# Altium schematic symbol library PMIC - Voltage Regulators - DC DC Switching Regulators.SchLib: 2 symbols
Pins are listed as number, name and electrical type; pins without a type are passive.

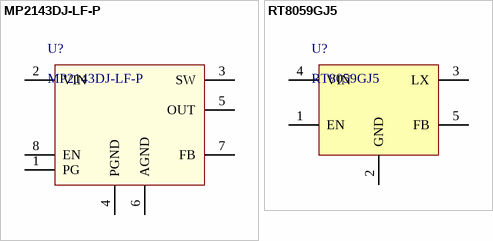
[diagram p0: symbols MP2143DJ-LF-P to RT8059GJ5]

## MP2143DJ-LF-P
designator U?
IC REG BUCK ADJ 3A SYNC; Manufacturer: Monolithic Power Systems Inc.; Function: Step-Down; Output Configuration: Positive; Output Type: Adjustable; Number of Outputs: 1; Voltage - Input (Min): 2.5V; Voltage - Input (Max): 5.5V; Voltage - Output (Min/Fixed): 0.6V; Voltage - Output (Max): 5V; Frequency - Switching: 1.2MHz; Synchronous Rectifier: Yes; Supplier 1: Digi-Key; Supplier Part Number 1: 1589-1080-1-ND; Manufacturer Part Number: MP2143DJ-LF-P; RoHS: RoHS Compliant; Category: Integrated Circuits (ICs); Stock 1: 415; Pricing 1: 1=3.07, 10=2.769, 25=2.472, 100=2.2248, 250=1.9776 (USD); Packaging: Cut Tape (CT); Part Status: Active; Topology: Buck; Current - Output: 3A; Operating Temperature: -40°C ~ 125°C (TJ); Mounting Type: Surface Mount; Supplier Device Package: TSOT-23-8; ComponentLink1URL: https://www.monolithicpower.com/DesktopModules/DocumentManage/API/Document/GetDocument?id=519; ComponentLink1Description: https://www.monolithicpower.com/DesktopModules/DocumentManage/API/Document/GetDocument?id=519; Package: SOT-23-8 Thin, TSOT-23-8
footprint TSOT-23-8
pins: 1 PG "Power-Good Indicator. The pin output is an open drain that connects to VIN by an internal pull-up resistor. PG is pulled up to VIN when the FB voltage is within ±10% of the regulation level. If FB voltage is out of that regulation range, it is LOW.", 2 VIN "Supply Voltage. The MP2143 operates from a 2.5V-to-5.5V unregulated input. C1  prevents large voltage spikes from appearing at the input.", 3 SW "Switch Output", 4 PGND "Power Ground", 5 OUT "Input Sense. For output voltage feedback", 6 AGND "Analog ground. Reference for the internal control circuit.", 7 FB "Feedback pin. Connect an external resistor divider from the output to AGND to set the output voltage.", 8 EN "On/Off Control"

## RT8059GJ5
designator U?
IC REG BUCK ADJ 1A SYNC TSOT23-5; Manufacturer: Richtek USA Inc.; Function: Step-Down; Output Configuration: Positive; Output Type: Adjustable; Number of Outputs: 1; Voltage - Input (Min): 2.8V; Voltage - Input (Max): 5.5V; Voltage - Output (Min/Fixed): 0.6V; Frequency - Switching: 1.5MHz; Synchronous Rectifier: Yes; Supplier 1: Digi-Key; Supplier Part Number 1: 1028-1493-1-ND; Manufacturer Part Number: RT8059GJ5; RoHS: RoHS Compliant; Category: Integrated Circuits (ICs); Stock 1: 2661; Pricing 1: 1=0.92, 10=0.809, 25=0.716, 100=0.6237, 250=0.54284, 500=0.462, 1000=0.3696 (USD); Packaging: Cut Tape (CT); Part Status: Active; Topology: Buck; Voltage - Output (Max): 5.5V; Current - Output: 1A; Operating Temperature: -40°C ~ 85°C (TA); Mounting Type: Surface Mount; Supplier Device Package: TSOT-23-5; ComponentLink1URL: http://www.richtek.com/assets/product_file/RT8059/DS8059-05.pdf; ComponentLink1Description: http://www.richtek.com/assets/product_file/RT8059/DS8059-05.pdf; Package: SOT-23-5 Thin, TSOT-23-5
footprint SOT-23-5 (SOT23, 5-Leads, Body 3.0x3.0mm (max), Pitch 0.95mm, IPC Medium Density)
pins: 1 EN, 2 GND, 3 LX, 4 VIN, 5 FB